# Altium footprint library 载板20220818.PcbLib: 53 footprints (part 4 of 4)
Each footprint in its own frame and in the unit in brackets; x right, y up, seen from the top. Pads: shape width x height; smd on the part's side, far side on the other; paste and mask are expansions set on the pad; w line width, h text height; cw(c..) or ccw(c..) is an arc to the next point about the centre after c.
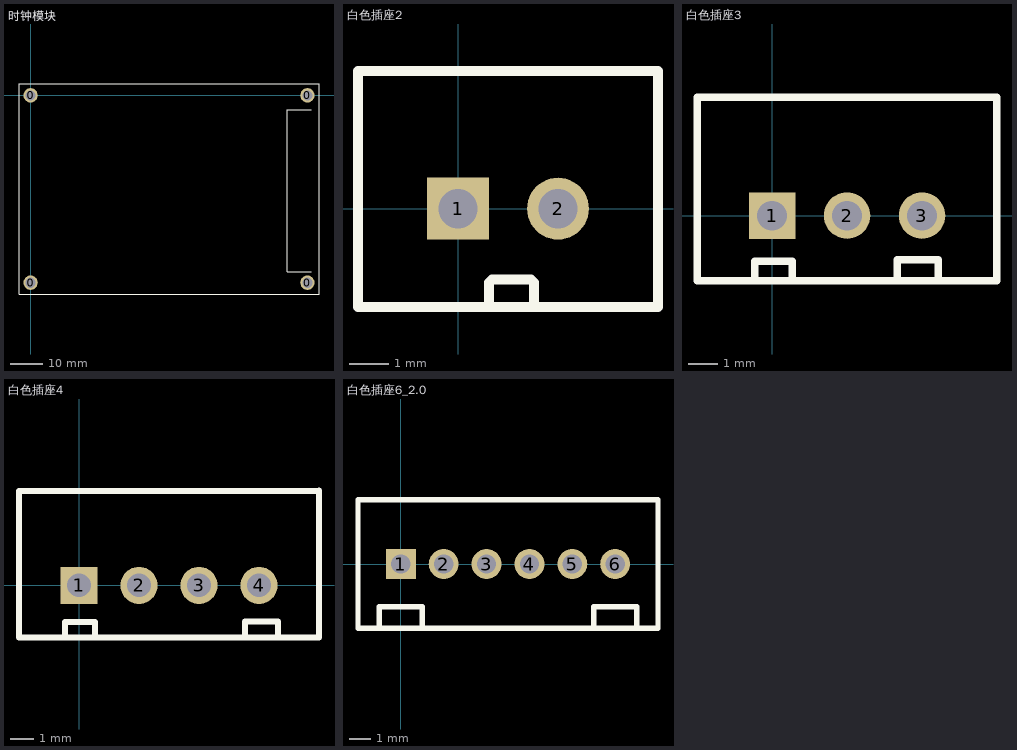
[diagram p3: the footprints below, top view; thin cyan lines are the x and y axes]

## 时钟模块 [mm]
pads (4):
  round 4.5 hole 3.17: 0(0,-58.42) 0(0,0) 0(86.36,-58.42) 0(86.36,0)
Top Overlay:
  lines w0.254: 87.5,-55 80,-55 80,-4.5 87.5,-4.5 ; -3.6,-62 -3.6,3.6 89.96,3.6 89.96,-62 -3.6,-62

## 白色插座2 [mm]
pads (2):
  rect 1.575x1.575 hole 1: 1(0,0)
  round 1.575 hole 1: 2(2.54,0)
Top Overlay:
  lines w0.254: 0.787,-1.88 0.787,-2.362 0.787,-1.88 ; 0.787,-1.88 0.864,-1.803 ; 0.787,-1.88 0.864,-1.803 ; 0.864,-1.803 1.854,-1.803 ; 0.864,-1.803 1.854,-1.803 ; 1.854,-1.803 1.93,-1.88 ; 1.854,-1.803 1.93,-1.88 ; 1.93,-1.88 1.93,-2.388 1.93,-1.88 ; -2.54,-2.5 5.08,-2.5 5.08,3.5 -2.54,3.5 -2.54,-2.5

## 白色插座3 [mil]
pads (3):
  rect 62x62 hole 39.37: 1(0,0)
  round 62 hole 39.37: 2(100,0) 3(200,0)
Top Overlay:
  lines w10: -100,157 -100,-86.61 300,-86.61 300,157.48 -100,157.48 ; -23,-86 -23,-61 27,-61 27,-86 ; 166.76,-84.06 166.76,-59.06 221.76,-59.06 221.76,-84.06

## 白色插座4 [mil]
pads (4):
  rect 62x62 hole 39.37: 1(0,0)
  round 62 hole 39.37: 2(100,0) 3(200,0) 4(300,0)
Top Overlay:
  lines w10: -100,157 -100,-86.61 400,-86.61 400,158 ; -100,157.48 400,157.48 ; -23,-86 -23,-61 27,-61 27,-86 ; 277,-85 277,-60 332,-60 332,-85

## 白色插座6_2.0 [mm]
pads (6):
  rect 1.4x1.4 hole 0.9: 1(0,0)
  round 1.4 hole 0.9: 2(2,0) 3(4,0) 4(6,0) 5(8,0) 6(10,0)
Top Overlay:
  lines w0.254: -1,-3 -1,-2 1,-2 1,-3 ; 9,-3 9,-2 11,-2 11,-3 ; -2,-3 5,-3 12,-3 12,3 -2,3 -2,-3